# EAGLE library part PIC18F46K80 (library Custom_Library)
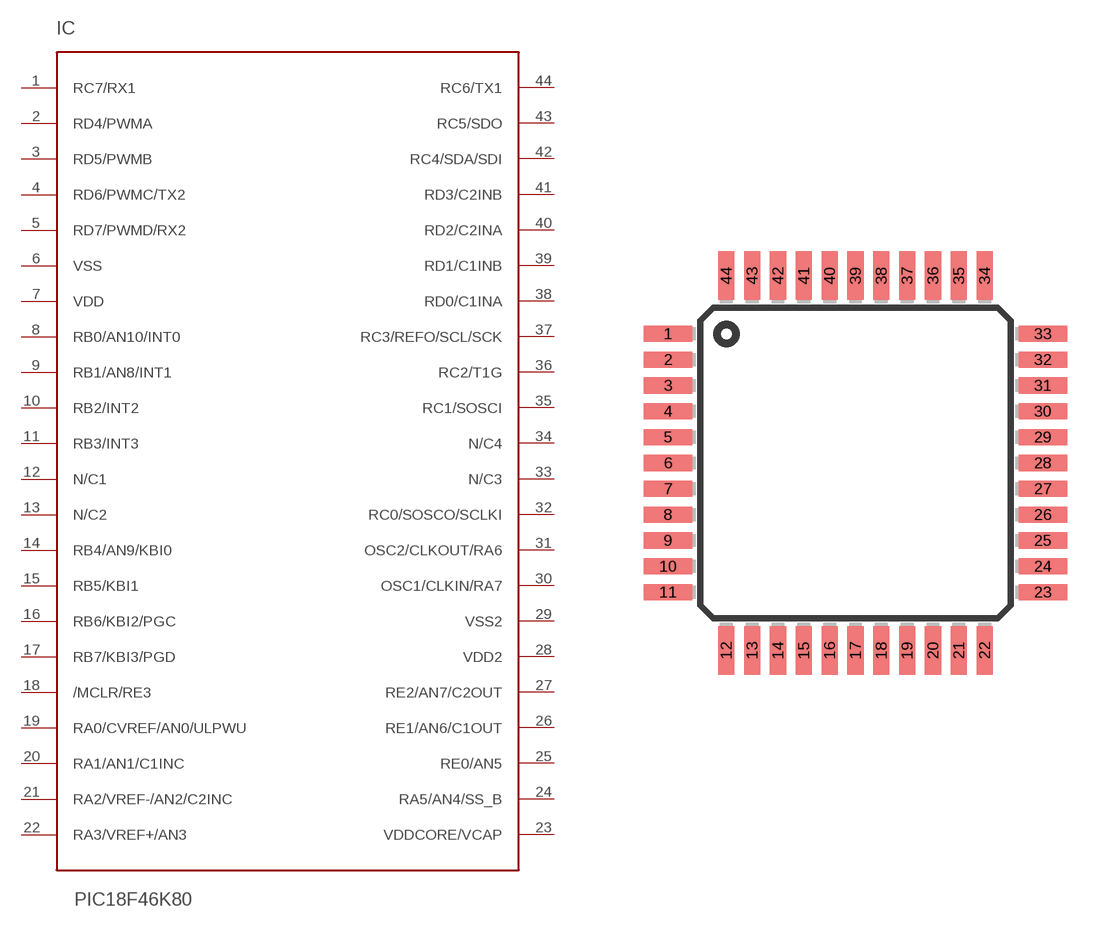
[diagram p3: symbol with the pads of TQFP44; footprint TQFP44]

Designator prefix IC

## PIC18F46K80  [TQFP44]
1  RC7/RX1
2  RD4/PWMA
3  RD5/PWMB
4  RD6/PWMC/TX2
5  RD7/PWMD/RX2
6  VSS
7  VDD
8  RB0/AN10/INT0
9  RB1/AN8/INT1
10  RB2/INT2
11  RB3/INT3
12  N/C1
13  N/C2
14  RB4/AN9/KBI0
15  RB5/KBI1
16  RB6/KBI2/PGC
17  RB7/KBI3/PGD
18  /MCLR/RE3
19  RA0/CVREF/AN0/ULPWU
20  RA1/AN1/C1INC
21  RA2/VREF-/AN2/C2INC
22  RA3/VREF+/AN3
23  VDDCORE/VCAP
24  RA5/AN4/SS_B
25  RE0/AN5
26  RE1/AN6/C1OUT
27  RE2/AN7/C2OUT
28  VDD2
29  VSS2
30  OSC1/CLKIN/RA7
31  OSC2/CLKOUT/RA6
32  RC0/SOSCO/SCLKI
33  N/C3
34  N/C4
35  RC1/SOSCI
36  RC2/T1G
37  RC3/REFO/SCL/SCK
38  RD0/C1INA
39  RD1/C1INB
40  RD2/C2INA
41  RD3/C2INB
42  RC4/SDA/SDI
43  RC5/SDO
44  RC6/TX1

## Footprint TQFP44 (pad centres in mm)
smd 1.5 x 0.5: 1 -5.8,4; 2 -5.8,3.2; 3 -5.8,2.4; 4 -5.8,1.6; 5 -5.8,0.8; 6 -5.8,0; 7 -5.8,-0.8; 8 -5.8,-1.6; 9 -5.8,-2.4; 10 -5.8,-3.2; 11 -5.8,-4; 23 5.8,-4; 24 5.8,-3.2; 25 5.8,-2.4; 26 5.8,-1.6; 27 5.8,-0.8; 28 5.8,0; 29 5.8,0.8; 30 5.8,1.6; 31 5.8,2.4; 32 5.8,3.2; 33 5.8,4
smd 0.5 x 1.5: 12 -4,-5.8; 13 -3.2,-5.8; 14 -2.4,-5.8; 15 -1.6,-5.8; 16 -0.8,-5.8; 17 0,-5.8; 18 0.8,-5.8; 19 1.6,-5.8; 20 2.4,-5.8; 21 3.2,-5.8; 22 4,-5.8; 34 4,5.8; 35 3.2,5.8; 36 2.4,5.8; 37 1.6,5.8; 38 0.8,5.8; 39 0,5.8; 40 -0.8,5.8; 41 -1.6,5.8; 42 -2.4,5.8; 43 -3.2,5.8; 44 -4,5.8